# Altium integrated library WR-FSH_rev16a.intlib: 14 symbols
Pins are listed as number, name and electrical type; pins without a type are passive.

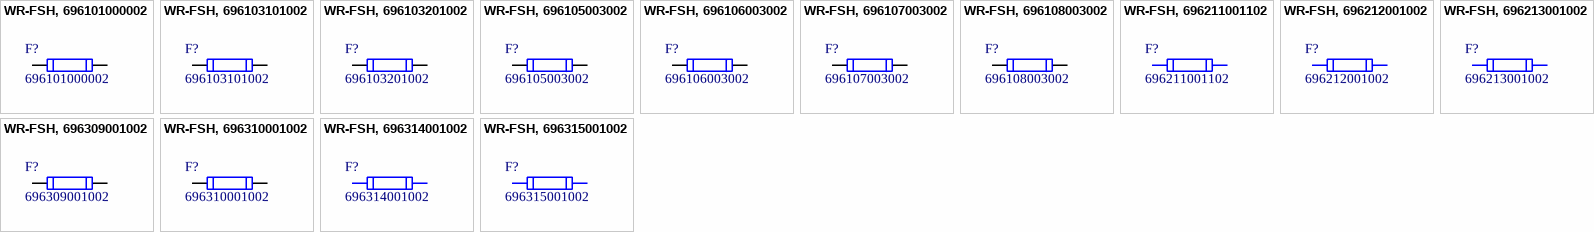
[diagram p0: symbols WR-FSH, 696101000002 to WR-FSH, 696315001002]

## WR-FSH, 696101000002
designator F?, comment 696101000002
WR-FSH Fuseholder THT Blocks PCB Clip Cover; Manufacturer: Wurth Elektronik; ComponentLink1 Description: Manufacturer; ComponentLink2 Description: Datasheet; NoPins: 2; ComponentLink1URL: http://www.we-online.de; ComponentLink2URL: http://katalog.we-online.de/em/datasheet/696101000002.pdf; Created by: BJ Chen; Created Date: Jan 2016; partNo: 696101000002
footprint 696101000002 (FUSEHOLDER BLOCKS - PCB - CLIP COVER - THT - WR-FSH)
pins: 1, 2

## WR-FSH, 696103101002
designator F?, comment 696103101002
WR-FSH Fuseholder SMT Blocks PCB Clip Cover; Manufacturer: Wurth Elektronik; ComponentLink1 Description: Manufacturer; ComponentLink2 Description: Datasheet; NoPins: 2; ComponentLink1URL: http://www.we-online.de; ComponentLink2URL: http://katalog.we-online.de/em/datasheet/696103101002.pdf; Created by: BJ Chen; Created Date: Jan 2016; partNo: 696103101002
footprint 696103101002 (PCB - Clip Cover - SMT)
pins: 1, 2

## WR-FSH, 696103201002
designator F?, comment 696103201002
WR-FSH Fuseholder THR Blocks PCB Clip Cover; Manufacturer: Wurth Elektronik; ComponentLink1 Description: Manufacturer; ComponentLink2 Description: Datasheet; NoPins: 2; ComponentLink1URL: http://www.we-online.de; ComponentLink2URL: http://katalog.we-online.de/em/datasheet/696103201002.pdf; Created by: BJ Chen; Created Date: Jan 2016; partNo: 696103201002
footprint 696103201002 (PCB - Clip Cover - THR)
pins: 1, 2

## WR-FSH, 696105003002
designator F?, comment 696105003002
WR-FSH Fuseholder THT Blocks PCB Clip Cover; Manufacturer: Wurth Elektronik; ComponentLink1 Description: Manufacturer; ComponentLink2 Description: Datasheet; NoPins: 2; ComponentLink1URL: http://www.we-online.de; ComponentLink2URL: http://katalog.we-online.de/em/datasheet/696105003002.pdf; Created by: BJ Chen; Created Date: Jan 2016; partNo: 696105003002
footprint 696105003002 (FUSEHOLDER BLOCKS - PCB - CLIP COVER - THT - WR-FSH)
pins: 1, 2

## WR-FSH, 696106003002
designator F?, comment 696106003002
WR-FSH Fuseholder THT Blocks PCB Clip Cover; Manufacturer: Wurth Elektronik; ComponentLink1 Description: Manufacturer; ComponentLink2 Description: Datasheet; NoPins: 2; ComponentLink1URL: http://www.we-online.de; ComponentLink2URL: http://katalog.we-online.de/em/datasheet/696106003002.pdf; Created by: BJ Chen; Created Date: Jan 2016; partNo: 696106003002
footprint 696106003002 (FUSEHOLDER BLOCKS - PCB - CLIP COVER - THT - WR-FSH)
pins: 1, 2

## WR-FSH, 696107003002
designator F?, comment 696107003002
WR-FSH Fuseholder THT Blocks PCB Clip Cover; Manufacturer: Wurth Elektronik; ComponentLink1 Description: Manufacturer; ComponentLink2 Description: Datasheet; NoPins: 2; ComponentLink1URL: http://www.we-online.de; ComponentLink2URL: http://katalog.we-online.de/em/datasheet/696107003002.pdf; Created by: BJ Chen; Created Date: Jan 2016; partNo: 696107003002
footprint 696107003002 (FUSEHOLDER BLOCKS - PCB - CLIP COVER - THT - WR-FSH)
pins: 1, 2

## WR-FSH, 696108003002
designator F?, comment 696108003002
WR-FSH Fuseholder THT Blocks PCB Clip Cover; Manufacturer: Wurth Elektronik; ComponentLink1 Description: Manufacturer; ComponentLink2 Description: Datasheet; NoPins: 2; ComponentLink1URL: http://www.we-online.de; ComponentLink2URL: http://katalog.we-online.de/em/datasheet/696108003002.pdf; Created by: BJ Chen; Created Date: Jan 2016; partNo: 696108003002
footprint 696108003002 (FUSEHOLDER BLOCKS - PCB - CLIP COVER - THT - WR-FSH)
pins: 1, 2

## WR-FSH, 696211001102
designator F?, comment 696211001102
WR-FSH Shocksafe Fuseholder-Panel-Screw and Lock Cover-THT-Glow wire Plastic; Manufacturer: Wurth Elektronik; ComponentLink1 Description: Manufacturer; ComponentLink2 Description: Datasheet; ComponentLink1URL: http://www.we-online.de; ComponentLink2URL: http://katalog.we-online.de/em/datasheet/696211001102.pdf; Created by: Baojun Chen; Created Date: Jan 2016; partNo: 696211001102
footprint 696211001102 (WR-FSH Shocksafe Fuseholder-Panel-Screw and Lock Cover-THT-Glow wire Plastic)

## WR-FSH, 696212001002
designator F?, comment 696212001002
WR-FSH Shocksafe Fuseholder-Panel-Screw and Lock Cover-THT; Manufacturer: Wurth Elektronik; ComponentLink1 Description: Manufacturer; ComponentLink2 Description: Datasheet; ComponentLink1URL: http://www.we-online.de; ComponentLink2URL: http://katalog.we-online.de/em/datasheet/696212001002.pdf; Created by: Baojun Chen; Created Date: Jan 2016; partNo: 696212001002
footprint 696212001002 (WR-FSH Shocksafe Fuseholder-Panel-Screw and Lock Cover-THT)

## WR-FSH, 696213001002
designator F?, comment 696213001002
WR-FSH Shocksafe Fuseholder-Panel-Screw and Lock Cover-THT; Manufacturer: Wurth Elektronik; ComponentLink1 Description: Manufacturer; ComponentLink2 Description: Datasheet; ComponentLink1URL: http://www.we-online.de; ComponentLink2URL: http://katalog.we-online.de/em/datasheet/696213001002.pdf; Created by: Baojun Chen; Created Date: Jan 2016; partNo: 696213001002
footprint 696213001002 (WR-FSH Shocksafe Fuseholder-Panel-Screw and Lock Cover-THT)

## WR-FSH, 696309001002
designator F?, comment 696309001002
WR-FSH Shocksafe Fuseholder-PCB-Turn and Lock Cover-THT; Manufacturer: Wurth Elektronik; ComponentLink1 Description: Manufacturer; ComponentLink2 Description: Datasheet; NoPins: 2; ComponentLink1URL: http://www.we-online.de; ComponentLink2URL: http://katalog.we-online.de/em/datasheet/696309001002.pdf; Created by: BJ Chen; Created Date: Jan 2016; partNo: 696309001002
footprint 696309001002 (WR-FSH Shocksafe Fuseholder-PCB-Turn and Lock Cover-THT)
pins: 1, 2

## WR-FSH, 696310001002
designator F?, comment 696310001002
WR-FSH Shocksafe Fuseholder-PCB-Turn and Lock Cover-THT; Manufacturer: Würth Elektronik eiSos GmbH; ComponentLink1 Description: Manufacturer; ComponentLink2 Description: Datasheet; NoPins: 2; ComponentLink1URL: http://www.we-online.de; ComponentLink2URL: http://katalog.we-online.de/em/datasheet/696310001002.pdf; Created by: BJ Chen; Created Date: Jan 2016; partNo: 696310001002
footprint 696310001002 (WR-FSH Shocksafe Fuseholder-PCB-Turn and Lock Cover-THT)
pins: 1, 2

## WR-FSH, 696314001002
designator F?, comment 696314001002
WR-FSH Shocksafe Fuseholder-Panel-Turn and Lock Cover-THT; Manufacturer: Wurth Elektronik; ComponentLink1 Description: Manufacturer; ComponentLink2 Description: Datasheet; ComponentLink1URL: http://www.we-online.de; ComponentLink2URL: http://katalog.we-online.de/em/datasheet/696314001002.pdf; Created by: BJ Chen; Created Date: Jan 2016; partNo: 696314001002
footprint 696314001002 (WR-FSH Shocksafe Fuseholder-Panel-Turn and Lock Cover-THT)

## WR-FSH, 696315001002
designator F?, comment 696315001002
WR-FSH Shocksafe Fuseholder-Panel-Turn and Lock Cover-THT; Manufacturer: Wurth Elektronik; ComponentLink1 Description: Manufacturer; ComponentLink2 Description: Datasheet; ComponentLink1URL: http://www.we-online.de; ComponentLink2URL: http://katalog.we-online.de/em/datasheet/696315001002.pdf; Created by: BJ Chen; Created Date: Jan 2016; partNo: 696315001002
footprint 696315001002 (WR-FSH Shocksafe Fuseholder-Panel-Turn and Lock Cover-THT)